# Altium footprint library 1-796636-4.PcbLib: 1 footprints
Each footprint in its own frame and in the unit in brackets; x right, y up, seen from the top. Pads: shape width x height; smd on the part's side, far side on the other; paste and mask are expansions set on the pad; w line width, h text height; cw(c..) or ccw(c..) is an arc to the next point about the centre after c.
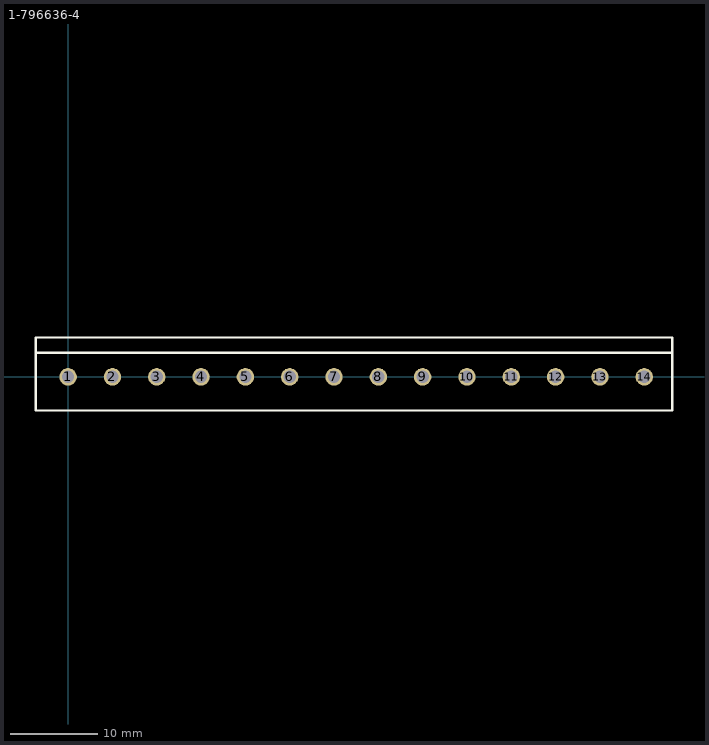
[diagram p0: the footprint, top view; thin cyan lines are the x and y axes]

## 1-796636-4 [mm] "14pos 5.08mm Eurostyle (Phoenix) terminal block header"
pads (14):
  round 2 hole 1.4: 1(0,0) 2(5.08,0) 3(10.16,0) 4(15.24,0) 5(20.32,0) 6(25.4,0) 7(30.48,0) 8(35.56,0) 9(40.64,0) 10(45.72,0) 11(50.8,0) 12(55.88,0) 13(60.96,0) 14(66.04,0)
Top Overlay:
  lines w0.254: -3.7,2.769 69.24,2.769 ; -3.7,-3.85 -3.7,4.5 69.24,4.5 69.24,-3.85 -3.7,-3.85
3D body: height 12, standoff -3.5, extent -3.708,-3.835 69.232,4.515